# Altium footprint library stm32f4.PCBLIB: 5 footprints
Each footprint in its own frame and in the unit in brackets; x right, y up, seen from the top. Pads: shape width x height; smd on the part's side, far side on the other; paste and mask are expansions set on the pad; w line width, h text height; cw(c..) or ccw(c..) is an arc to the next point about the centre after c.
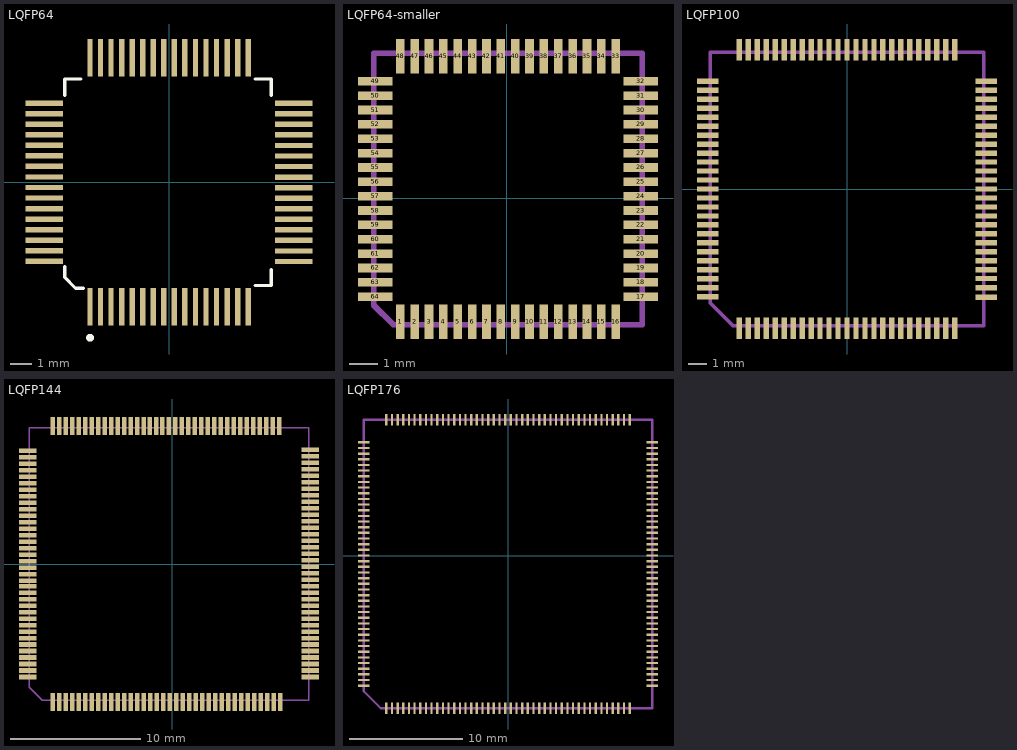
[diagram p0: the footprints below, top view; thin cyan lines are the x and y axes]

## LQFP64 [mil]
pads (64):
  rect 10x70 smd: 1(-147.5,-232.34) 2(-127.82,-232.34) 3(-108.13,-232.34) 4(-88.45,-232.34) 5(-68.76,-232.34) 6(-49.08,-232.34) 7(-29.39,-232.34) 8(-9.71,-232.34) 9(9.98,-232.34) 10(29.66,-232.34) 11(49.35,-232.34) 12(69.03,-232.34) 13(88.72,-232.34) 14(108.4,-232.34) 15(128.09,-232.34) 16(147.77,-232.34) 33(147.77,232.34) 34(128.09,232.34) 35(108.4,232.34) 36(88.72,232.34) 37(69.03,232.34) 38(49.35,232.34) 39(29.66,232.34) 40(9.98,232.34) 41(-9.71,232.34) 42(-29.39,232.34) 43(-49.08,232.34) 44(-68.76,232.34) 45(-88.45,232.34) 46(-108.13,232.34) 47(-127.82,232.34) 48(-147.5,232.34)
  rect 70x10 smd: 17(232.34,-147.77) 18(232.34,-128.09) 19(232.34,-108.4) 20(232.34,-88.72) 21(232.34,-69.03) 22(232.34,-49.35) 23(232.34,-29.66) 24(232.34,-9.98) 25(232.34,9.71) 26(232.34,29.39) 27(232.34,49.08) 28(232.34,68.76) 29(232.34,88.45) 30(232.34,108.13) 31(232.34,127.82) 32(232.34,147.5) 49(-232.34,147.78) 50(-232.34,128.09) 51(-232.34,108.41) 52(-232.34,88.72) 53(-232.34,69.04) 54(-232.34,49.35) 55(-232.34,29.67) 56(-232.34,9.98) 57(-232.34,-9.7) 58(-232.34,-29.39) 59(-232.34,-49.07) 60(-232.34,-68.76) 61(-232.34,-88.44) 62(-232.34,-108.13) 63(-232.34,-127.81) 64(-232.34,-147.5)
Top Overlay:
  circle w9.84: c-147.31,-290 r2.31
  lines w6: -194.39,-157.5 -194.39,-177.5 -174.39,-197.5 -159.39,-197.5 ; -194.39,162.5 -194.39,192.5 -164.39,192.5 ; 160.61,-192.5 190.61,-192.5 190.61,-162.5 ; 160.61,192.5 190.61,192.5 190.61,162.5

## LQFP64-smaller [mm]
pads (64):
  rect 0.3x1.2 smd: 1(-3.7,-4.3) 2(-3.2,-4.3) 3(-2.7,-4.3) 4(-2.2,-4.3) 5(-1.7,-4.3) 6(-1.2,-4.3) 7(-0.7,-4.3) 8(-0.2,-4.3) 9(0.3,-4.3) 10(0.8,-4.3) 11(1.3,-4.3) 12(1.8,-4.3) 13(2.3,-4.3) 14(2.8,-4.3) 15(3.3,-4.3) 16(3.8,-4.3) 33(3.8,4.95) 34(3.3,4.95) 35(2.8,4.95) 36(2.3,4.95) 37(1.8,4.95) 38(1.3,4.95) 39(0.8,4.95) 40(0.3,4.95) 41(-0.2,4.95) 42(-0.7,4.95) 43(-1.2,4.95) 44(-1.7,4.95) 45(-2.2,4.95) 46(-2.7,4.95) 47(-3.2,4.95) 48(-3.7,4.95)
  rect 1.2x0.3 smd: 17(4.675,-3.425) 18(4.675,-2.925) 19(4.675,-2.425) 20(4.675,-1.925) 21(4.675,-1.425) 22(4.675,-0.925) 23(4.675,-0.425) 24(4.675,0.075) 25(4.675,0.575) 26(4.675,1.075) 27(4.675,1.575) 28(4.675,2.075) 29(4.675,2.575) 30(4.675,3.075) 31(4.675,3.575) 32(4.675,4.075) 49(-4.575,4.075) 50(-4.575,3.575) 51(-4.575,3.075) 52(-4.575,2.575) 53(-4.575,2.075) 54(-4.575,1.575) 55(-4.575,1.075) 56(-4.575,0.575) 57(-4.575,0.075) 58(-4.575,-0.425) 59(-4.575,-0.925) 60(-4.575,-1.425) 61(-4.575,-1.925) 62(-4.575,-2.425) 63(-4.575,-2.925) 64(-4.575,-3.425)
Mechanical 8:
  lines w0.2: -4.625,4.95 -4.625,-3.725 -3.95,-4.4 4.725,-4.4 4.725,5.05 -4.625,5.05

## LQFP100 [mm]
pads (100):
  rect 1.2x0.3 smd: BOOT0(-7.75,-3) PA3(7.75,-6.016) PA4(7.75,-4.5) PA5(7.75,-4) PA6(7.75,-3.5) PA7(7.75,-3) PA14(-7.75,6) PA15(-7.75,5.5) PB0(7.75,-1.5) PB1(7.75,-1) PB2(7.75,-0.5) PB3(-7.75,-0.5) PB4(-7.75,-1) PB5(-7.75,-1.5) PB6(-7.75,-2) PB7(-7.75,-2.5) PB8(-7.75,-3.5) PB9(-7.75,-4) PB10(7.75,4.5) PB11(7.75,5) PC4(7.75,-2.5) PC5(7.75,-2) PC10(-7.75,5) PC11(-7.75,4.5) PC12(-7.75,4) PD0(-7.75,3.5) PD1(-7.75,3) PD2(-7.75,2.5) PD3(-7.75,2) PD4(-7.75,1.5) PD5(-7.75,1) PD6(-7.75,0.5) PD7(-7.75,0) PDR_ON(-7.75,-5.5) PE0(-7.75,-4.5) PE1(-7.75,-5) PE7(7.75,0) PE8(7.75,0.5) PE9(7.75,1) PE10(7.75,1.5) PE11(7.75,2) PE12(7.75,2.5) PE13(7.75,3) PE14(7.75,3.5) PE15(7.75,4) VCAP1(7.75,5.5) VDD3(7.75,-4.984) VDD4(7.75,6) VDD6(-7.75,-6) VSS2(7.75,-5.5)
  rect 0.3x1.2 smd: NRST(0.5,-7.75) PA0(5,-7.75) PA1(5.5,-7.75) PA2(6,-7.75) PA8(-2,7.75) PA9(-2.5,7.75) PA10(-3,7.75) PA11(-3.5,7.75) PA12(-4,7.75) PA13(-4.5,7.75) PB12(6,7.75) PB13(5.5,7.75) PB14(5,7.75) PB15(4.5,7.75) PC0(1,-7.75) PC1(1.5,-7.75) PC2(2,-7.75) PC3(2.5,-7.75) PC6(0,7.75) PC7(-0.5,7.75) PC8(-1,7.75) PC9(-1.5,7.75) PC13(-3,-7.75) PC14(-2.5,-7.75) PC15(-2,-7.75) PD8(4,7.75) PD9(3.5,7.75) PD10(3,7.75) PD11(2.5,7.75) PD12(2,7.75) PD13(1.5,7.75) PD14(1,7.75) PD15(0.5,7.75) PE2(-6,-7.75) PE3(-5.5,-7.75) PE4(-5,-7.75) PE5(-4.5,-7.75) PE6(-4,-7.75) PH0(-0.5,-7.75) PH1(0,-7.75) VBAT(-3.5,-7.75) VCAP2(-5,7.75) VDD1(-1,-7.75) VDD2(3,-7.75) VDD5(-6,7.75) VDDA(4.5,-7.75) VREF+(4,-7.75) VSS1(-1.5,-7.75) VSS3(-5.5,7.75) VSSA(3.5,-7.75)
Mechanical 8:
  lines w0.2: -7.62,-6.35 -6.35,-7.62 7.62,-7.62 7.62,7.62 -7.62,7.62 -7.62,-6.35

## LQFP144 [mm]
pads (144):
  rect 0.35x1.35 smd: 1(-9.2,-10.625) 2(-8.7,-10.625) 3(-8.2,-10.625) 4(-7.7,-10.625) 5(-7.2,-10.625) 6(-6.7,-10.625) 7(-6.2,-10.625) 8(-5.7,-10.625) 9(-5.2,-10.625) 10(-4.7,-10.625) 11(-4.2,-10.625) 12(-3.7,-10.625) 13(-3.2,-10.625) 14(-2.7,-10.625) 15(-2.2,-10.625) 16(-1.7,-10.625) 17(-1.2,-10.625) 18(-0.7,-10.625) 19(-0.2,-10.625) 20(0.3,-10.625) 21(0.8,-10.625) 22(1.3,-10.625) 23(1.8,-10.625) 24(2.3,-10.625) 25(2.8,-10.625) 26(3.3,-10.625) 27(3.8,-10.625) 28(4.3,-10.625) 29(4.8,-10.625) 30(5.3,-10.625) 31(5.8,-10.625) 32(6.3,-10.625) 33(6.8,-10.625) 34(7.3,-10.625) 35(7.8,-10.625) 36(8.3,-10.625) 73(8.225,10.625) 74(7.725,10.625) 75(7.225,10.625) 76(6.725,10.625) 77(6.225,10.625) 78(5.725,10.625) 79(5.225,10.625) 80(4.725,10.625) 81(4.225,10.625) 82(3.725,10.625) 83(3.225,10.625) 84(2.725,10.625) 85(2.225,10.625) 86(1.725,10.625) 87(1.225,10.625) 88(0.725,10.625) 89(0.225,10.625) 90(-0.275,10.625) 91(-0.775,10.625) 92(-1.225,10.625) 93(-1.725,10.625) 94(-2.2,10.625) 95(-2.7,10.625) 96(-3.2,10.625) 97(-3.7,10.625) 98(-4.2,10.625) 99(-4.7,10.625) 100(-5.2,10.625) 101(-5.7,10.625) 102(-6.2,10.625) 103(-6.7,10.625) 104(-7.2,10.625) 105(-7.7,10.625) 106(-8.2,10.625) 107(-8.7,10.625) 108(-9.2,10.625)
  rect 1.35x0.35 smd: 37(10.625,-8.7) 38(10.625,-8.2) 39(10.625,-7.7) 40(10.625,-7.2) 41(10.625,-6.7) 42(10.625,-6.2) 43(10.625,-5.7) 44(10.625,-5.2) 45(10.625,-4.7) 46(10.625,-4.2) 47(10.625,-3.7) 48(10.625,-3.2) 49(10.625,-2.7) 50(10.625,-2.2) 51(10.625,-1.7) 52(10.625,-1.2) 53(10.625,-0.7) 54(10.625,-0.2) 55(10.625,0.3) 56(10.625,0.8) 57(10.625,1.3) 58(10.625,1.8) 59(10.625,2.3) 60(10.625,2.8) 61(10.625,3.3) 62(10.625,3.8) 63(10.625,4.3) 64(10.625,4.8) 65(10.625,5.3) 66(10.625,5.8) 67(10.625,6.3) 68(10.625,6.8) 69(10.625,7.3) 70(10.625,7.8) 71(10.625,8.3) 72(10.625,8.8) 109(-11.125,8.725) 110(-11.125,8.225) 111(-11.125,7.725) 112(-11.125,7.225) 113(-11.125,6.725) 114(-11.125,6.225) 115(-11.125,5.725) 116(-11.125,5.225) 117(-11.125,4.725) 118(-11.125,4.225) 119(-11.125,3.725) 120(-11.125,3.225) 121(-11.125,2.725) 122(-11.125,2.225) 123(-11.125,1.725) 124(-11.125,1.225) 125(-11.125,0.725) 126(-11.125,0.225) 127(-11.125,-0.275) 128(-11.125,-0.775) 129(-11.125,-1.275) 130(-11.125,-1.725) 131(-11.125,-2.225) 132(-11.125,-2.7) 133(-11.125,-3.2) 134(-11.125,-3.7) 135(-11.125,-4.2) 136(-11.125,-4.7) 137(-11.125,-5.2) 138(-11.125,-5.7) 139(-11.125,-6.2) 140(-11.125,-6.7) 141(-11.125,-7.2) 142(-11.125,-7.7) 143(-11.125,-8.2) 144(-11.125,-8.7)
Mechanical 8:
  lines w0.127: -11,-9.5 -11,10.5 10.5,10.5 10.5,-10.5 -10,-10.5 -11,-9.5

## LQFP176 [mm]
pads (176):
  rect 0.2x1 smd: P$1(0.25,-13.5) P$2(-10.75,-13.5) P$3(-10.25,-13.5) P$4(0.75,-13.5) P$5(1.25,-13.5) P$6(1.75,-13.5) P$7(2.25,-13.5) P$8(2.75,-13.5) P$9(3.25,-13.5) P$10(3.75,-13.5) P$11(4.25,-13.5) P$12(4.75,-13.5) P$13(5.25,-13.5) P$14(5.75,-13.5) P$15(6.25,-13.5) P$16(6.75,-13.5) P$17(7.25,-13.5) P$18(7.75,-13.5) P$19(8.25,-13.5) P$20(8.75,-13.5) P$21(9.25,-13.5) P$22(9.75,-13.5) P$23(10.25,-13.5) P$24(10.75,-13.5) P$25(-9.75,-13.5) P$26(-9.25,-13.5) P$27(-8.75,-13.5) P$28(-8.25,-13.5) P$29(-7.75,-13.5) P$30(-7.25,-13.5) P$31(-6.75,-13.5) P$32(-6.25,-13.5) P$33(-5.75,-13.5) P$34(-5.25,-13.5) P$35(-4.75,-13.5) P$36(-4.25,-13.5) P$37(-3.75,-13.5) P$38(-3.25,-13.5) P$39(-2.75,-13.5) P$40(-2.25,-13.5) P$41(-1.75,-13.5) P$42(-1.25,-13.5) P$43(-0.75,-13.5) P$44(-0.25,-13.5) P$45(-0.25,12) P$46(-0.75,12) P$47(-1.25,12) P$48(-1.75,12) P$49(-2.25,12) P$50(-2.75,12) P$51(-3.25,12) P$52(-3.75,12) P$53(-4.25,12) P$54(-4.75,12) P$55(-5.25,12) P$56(-5.75,12) P$57(-6.25,12) P$58(-6.75,12) P$59(-7.25,12) P$60(-7.75,12) P$61(-8.25,12) P$62(-8.75,12) P$63(-9.25,12) P$64(-9.75,12) P$65(-10.25,12) P$66(-10.75,12) P$67(10.75,12) P$68(10.25,12) P$69(9.75,12) P$70(9.25,12) P$71(8.75,12) P$72(8.25,12) P$73(7.75,12) P$74(7.25,12) P$75(6.75,12) P$76(6.25,12) P$77(5.75,12) P$78(5.25,12) P$79(4.75,12) P$80(4.25,12) P$81(3.75,12) P$82(3.25,12) P$83(2.75,12) P$84(2.25,12) P$85(1.75,12) P$86(1.25,12) P$87(0.75,12) P$88(0.25,12)
  rect 1x0.2 smd: P$89(12.75,-1) P$90(12.75,-1.5) P$91(12.75,-2) P$92(12.75,-2.5) P$93(12.75,-3) P$94(12.75,-3.5) P$95(12.75,-4) P$96(12.75,-4.5) P$97(12.75,-5) P$98(12.75,-5.5) P$99(12.75,-6) P$100(12.75,-6.5) P$101(12.75,-7) P$102(12.75,-7.5) P$103(12.75,-8) P$104(12.75,-8.5) P$105(12.75,-9) P$106(12.75,-9.5) P$107(12.75,-10) P$108(12.75,-10.5) P$109(12.75,-11) P$110(12.75,-11.5) P$111(12.75,10) P$112(12.75,9.5) P$113(12.75,9) P$114(12.75,8.5) P$115(12.75,8) P$116(12.75,7.5) P$117(12.75,7) P$118(12.75,6.5) P$119(12.75,6) P$120(12.75,5.5) P$121(12.75,5) P$122(12.75,4.5) P$123(12.75,4) P$124(12.75,3.5) P$125(12.75,3) P$126(12.75,2.5) P$127(12.75,2) P$128(12.75,1.5) P$129(12.75,1) P$130(12.75,0.5) P$131(12.75,0) P$132(12.75,-0.5) P$133(-12.75,-0.5) P$134(-12.75,0) P$135(-12.75,0.5) P$136(-12.75,1) P$137(-12.75,1.5) P$138(-12.75,2) P$139(-12.75,2.5) P$140(-12.75,3) P$141(-12.75,3.5) P$142(-12.75,4) P$143(-12.75,4.5) P$144(-12.75,5) P$145(-12.75,5.5) P$146(-12.75,6) P$147(-12.75,6.5) P$148(-12.75,7) P$149(-12.75,7.5) P$150(-12.75,8) P$151(-12.75,8.5) P$152(-12.75,9) P$153(-12.75,9.5) P$154(-12.75,10) P$155(-12.75,-11.5) P$156(-12.75,-11) P$157(-12.75,-10.5) P$158(-12.75,-10) P$159(-12.75,-9.5) P$160(-12.75,-9) P$161(-12.75,-8.5) P$162(-12.75,-8) P$163(-12.75,-7.5) P$164(-12.75,-7) P$165(-12.75,-6.5) P$166(-12.75,-6) P$167(-12.75,-5.5) P$168(-12.75,-5) P$169(-12.75,-4.5) P$170(-12.75,-4) P$171(-12.75,-3.5) P$172(-12.75,-3) P$173(-12.75,-2.5) P$174(-12.75,-2) P$175(-12.75,-1.5) P$176(-12.75,-1)
Mechanical 8:
  lines w0.2: -12.75,-12 -11.25,-13.5 12.75,-13.5 12.75,12 -12.75,12 -12.75,-12